# Altium schematic symbol library sounders.SchLib: 12 symbols
Pins are listed as number, name and electrical type; pins without a type are passive.

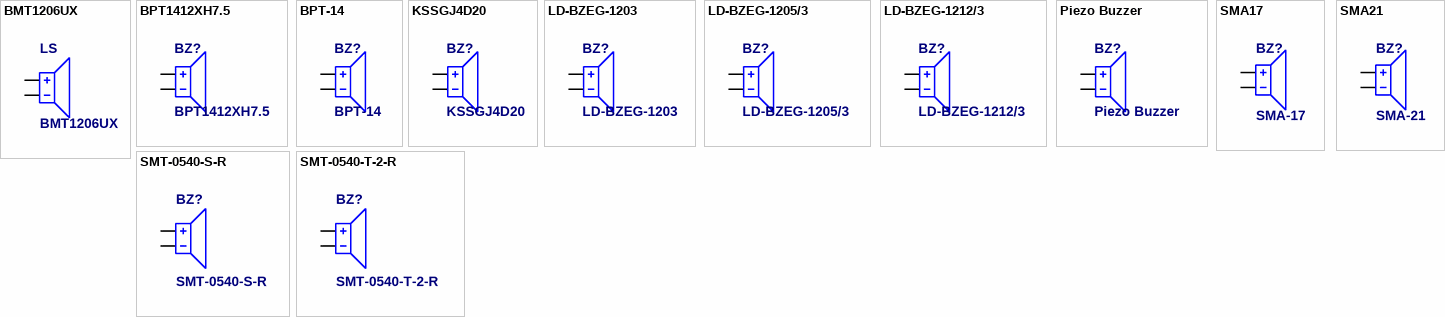
[diagram p0: symbols BMT1206UX to SMT-0540-T-2-R]

## BMT1206UX
designator LS
Buzzer
footprint BUZ-12-7,6 (BUZZER (w generator), D:12mm, P:7,6mm (eg. BMT1203UX))
footprint BUZ-12-7,6-COVER (BUZZER (w generator), D:12mm, P:7,6mm (eg. BMT1203UX))
pins: 1, 2

## BPT1412XH7.5
designator BZ?
Piezoelectric Sound Transducer: 5Vp-p; 4kHz; O:14mm; with generator; Published: 24-Mar-1999; Revision: July-2002: Re-released for DXP Platform.; Publisher: Altium Limited
footprint BUZ-13,8-7,6 (BUZZER (w or w/o generator), D:13,8mm, P:7,6mm (eg. BPT1412XH7.5))
pins: 1, 2

## BPT-14
designator BZ?
Piezoelectric Sound Transducer: 5Vp-p; 4kHz; O:14mm; no generator; Published: 24-Mar-1999; Revision: July-2002: Re-released for DXP Platform.; Publisher: Altium Limited
footprint BUZ-13,8-7,6 (BUZZER (w or w/o generator), D:13,8mm, P:7,6mm (eg. BPT1412XH7.5))
pins: 1, 2

## KSSGJ4D20
designator BZ?
Kingstate Magnetic Buzzer, SMG, Max. 97dB, 3,6V; Published: 24-Mar-1999; Revision: July-2002: Re-released for DXP Platform.; Publisher: Altium Limited
footprint KSSGJ4D20 (KINGSTATE Magnetic Buzzer, SMD, 97DB MAX, 3.6V)
pins: NEG 2, POS 1

## LD-BZEG-1203
designator BZ?
Loudity Electromagnetic Sound Transducer: 2-5V; 2.3kHz; O:12mm;; Published: 24-Mar-1999; Revision: July-2002: Re-released for DXP Platform.; Publisher: Altium Limited
footprint BUZ-12-7,6 (BUZZER (w generator), D:12mm, P:7,6mm (eg. BMT1203UX))
footprint BUZ-12-7,6-COVER (BUZZER (w generator), D:12mm, P:7,6mm (eg. BMT1203UX))
pins: 1, 2

## LD-BZEG-1205/3
designator BZ?
Loudity Electromagnetic Sound Transducer: 3-7V; 3.1kHz; O:12mm;; Published: 24-Mar-1999; Revision: July-2002: Re-released for DXP Platform.; Publisher: Altium Limited
footprint BUZ-12-7,6 (BUZZER (w generator), D:12mm, P:7,6mm (eg. BMT1203UX))
footprint BUZ-12-7,6-COVER (BUZZER (w generator), D:12mm, P:7,6mm (eg. BMT1203UX))
pins: 1, 2

## LD-BZEG-1212/3
designator BZ?
Loudity Electromagnetic Sound Transducer: 9-15V; 3.1kHz; O:12mm;; Published: 24-Mar-1999; Revision: July-2002: Re-released for DXP Platform.; Publisher: Altium Limited
footprint BUZ-12-7,6 (BUZZER (w generator), D:12mm, P:7,6mm (eg. BMT1203UX))
footprint BUZ-12-7,6-COVER (BUZZER (w generator), D:12mm, P:7,6mm (eg. BMT1203UX))
pins: 1, 2

## Piezo Buzzer
designator BZ?
Piezo Buzzer with Generator; Published: 24-Mar-1999; Revision: July-2002: Re-released for DXP Platform.; Publisher: Altium Limited
footprint BUZ-12-7,6 (BUZZER (w generator), D:12mm, P:7,6mm (eg. BMT1203UX))
footprint BUZ-12-7,6-COVER (BUZZER (w generator), D:12mm, P:7,6mm (eg. BMT1203UX))
pins: 1, 2

## SMA17
designator BZ?, comment SMA-17
Sonitron 17mm Piezo Buzzer
footprint SMA-17 P10
pins: 1, 2

## SMA21
designator BZ?, comment SMA-21
Sonitron 21mm Piezo Buzzer
footprint SMA-21 P10
pins: 1, 2

## SMT-0540-S-R
designator BZ?
footprint SMT-0540-S-R (PUI Audio Inc. Electromechanical Buzzer)
pins: 1, 2

## SMT-0540-T-2-R
designator BZ?
footprint SMT-0540-T-2-R (PUI Audio Inc. Electromechanical Buzzer)
pins: 1, 2